# Altium footprint library 8.Quartz_Resonators&Filters.PcbLib: 10 footprints
Each footprint in its own frame and in the unit in brackets; x right, y up, seen from the top. Pads: shape width x height; smd on the part's side, far side on the other; paste and mask are expansions set on the pad; w line width, h text height; cw(c..) or ccw(c..) is an arc to the next point about the centre after c.
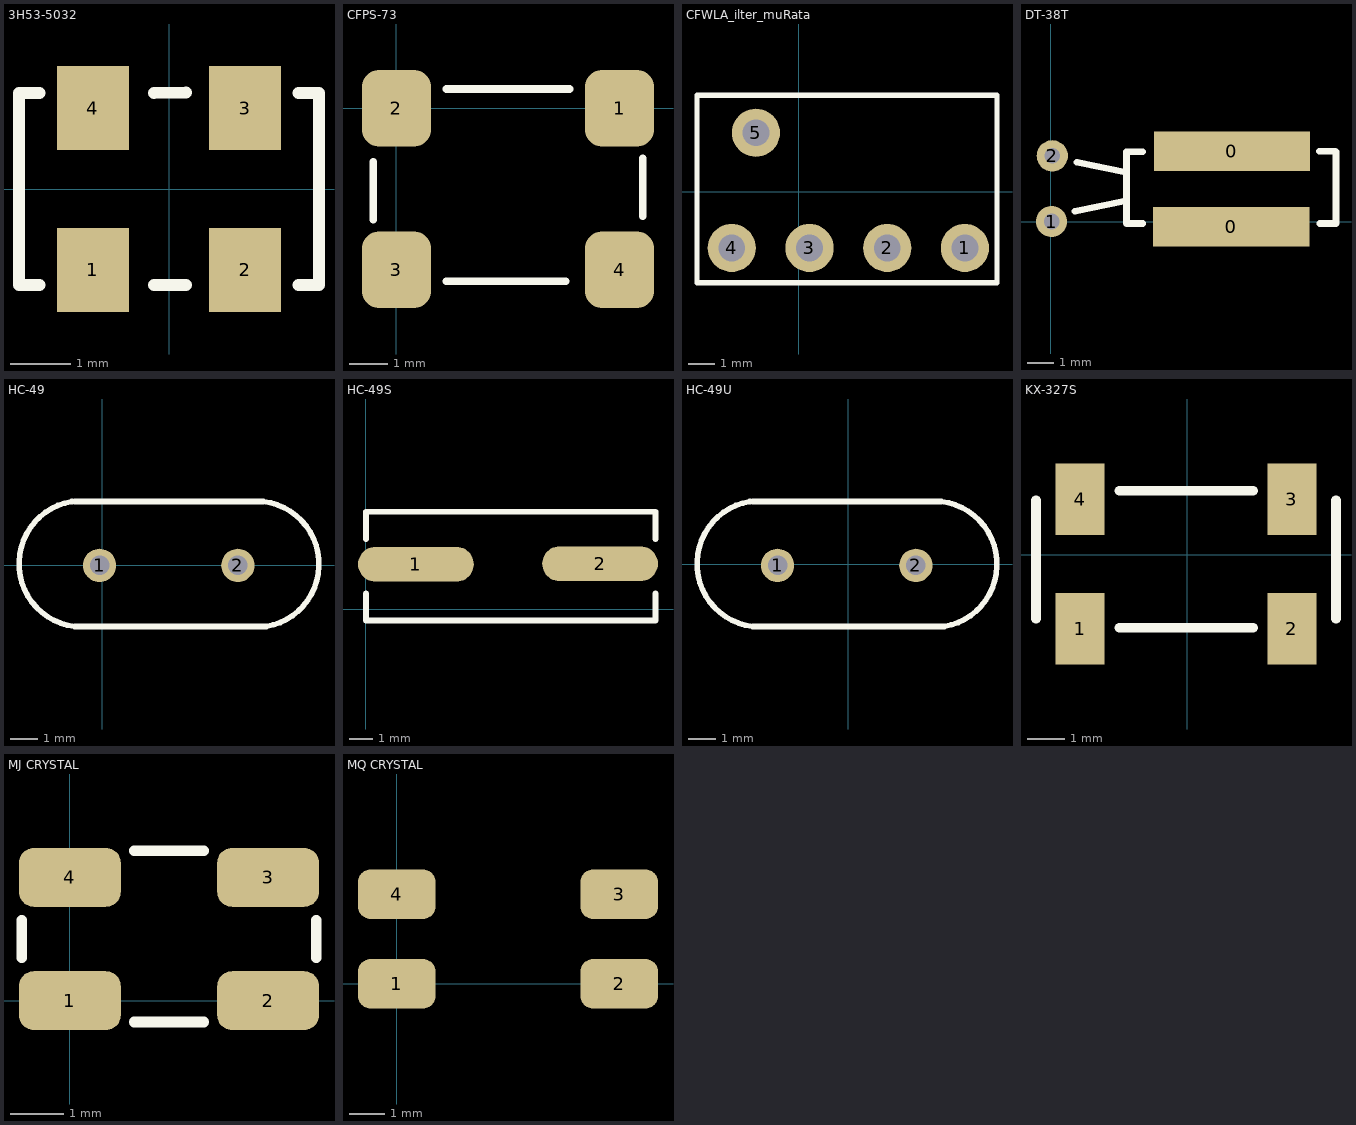
[diagram p0: the footprints below, top view; thin cyan lines are the x and y axes]

## 3H53-5032 [mm]
pads (4):
  rect 1.2x1.4 smd: 1(-1.27,-1.346) 2(1.27,-1.346) 3(1.27,1.346) 4(-1.27,1.346)
Top Overlay:
  lines w0.2: -2.159,-1.6 -2.5,-1.6 -2.5,0 -2.5,1.6 -2.159,1.6 ; -0.254,1.6 0.282,1.605 ; -0.251,-1.602 0.285,-1.597 ; 2.159,-1.6 2.5,-1.6 2.5,0 2.5,1.6 2.159,1.6
  text "." at -2.702,-2.501 h0.5
3D body "User Library-H53-5x3_2.step": height 1.22, standoff 0, extent -2.5,-1.6 2.5,1.6

## CFPS-73 [mm]
pads (4):
  rrect50% 1.8x2 smd: 1(5.8,0) 2(0,0) 3(0,-4.2) 4(5.8,-4.2)
Top Overlay:
  lines w0.2: -0.6,-2.9 -0.6,-1.4 ; 1.3,-4.5 4.4,-4.5 ; 1.3,0.5 4.5,0.5 ; 6.4,-2.8 6.4,-1.3
3D body "User Library-CFPS-73.step": height 1.52, standoff 0, extent -0.6,-4.51 6.4,0.51

## CFWLA_ilter_muRata [mm]
pads (5):
  round 1.8 hole 1: 1(6.2,-2.1) 2(3.3,-2.1) 3(0.4,-2.1) 4(-2.5,-2.1) 5(-1.6,2.2)
Top Overlay:
  lines w0.2: -3.8,-3.4 7.4,-3.4 7.4,3.6 -3.8,3.6 -3.8,-3.4
3D body "User Library-CFWLA.step": height 7.5, standoff -3.5, extent -3.8,-3.4 7.2,3.6

## DT-38T [mm]
pads (4):
  rect 6x1.5 smd: 0(6.925,-0.2) 0(6.95,2.7)
  round 1.2 hole 0.6: 1(0.025,0) 2(0.05,2.525)
Top Overlay:
  lines w0.254: 0.925,0.4 2.8,0.775 ; 1,2.275 2.875,1.9 ; 3.525,-0.075 2.9,-0.075 2.9,2.675 3.525,2.675 ; 10.3,2.7 10.925,2.7 ; 10.325,-0.075 10.95,-0.075 10.95,2.675
3D body "User Library-KDS-DT-38.step": height 3.1, standoff -2.5, extent -0.138,-0.25 11.038,2.75

## HC-49 [mm]
pads (2):
  round 1.2 hole 0.7: 1(-0.1,0) 2(4.88,0)
Top Overlay:
  lines w0.2: -1.1,2.3 ccw(c-0.727,0.057) -1,-2.2 5.9,-2.2 ccw(c5.527,0.043) 5.8,2.3 -1,2.3
3D body "User Library-HC-49.step": height 3.5, standoff -3, extent -3,-2.2 7.8,2.3

## HC-49S [mm]
pads (2):
  oval 5x1.5 smd: 1(2.159,1.93) 2(10.109,1.956)
Top Overlay:
  lines w0.254: 0,0.675 0,-0.5 12.5,-0.5 12.5,0.675 ; 0,3.025 0,4.2 12.5,4.2 12.5,3.025
3D body "User Library-HC-49S.step": height 4.4, standoff 0.05, extent 0.05,-0.45 12.35,4.25

## HC-49U [mm]
pads (2):
  round 1.2 hole 0.7: 1(-2.55,-0.05) 2(2.43,-0.05)
Top Overlay:
  lines w0.2: -3.55,2.25 ccw(c-3.177,0.007) -3.45,-2.25 3.45,-2.25 ccw(c3.077,-0.007) 3.35,2.25 -3.45,2.25
3D body "User Library-HC49U-2.step": height 13.2, standoff -2, extent -5.6,-2.3 5.4,2.2

## KX-327S [mm]
pads (4):
  rect 1.3x1.9 smd: 1(-2.85,-1.975) 2(2.775,-1.975) 3(2.775,1.475) 4(-2.85,1.475)
Top Overlay:
  lines w0.254: -4.025,-1.7 -4.025,1.45 ; -1.805,-1.95 1.75,-1.95 ; -1.805,1.7 1.75,1.7 ; 3.95,-1.7 3.95,1.45
3D body "User Library-KX-327S.step": height 2.5, standoff 0, extent -4.025,-2 3.975,1.7

## MJ CRYSTAL [mm]
pads (4):
  rrect50% 1.9x1.1 smd: 1(0,0) 2(3.7,0) 3(3.7,2.3) 4(0,2.3)
Top Overlay:
  lines w0.2: -0.9,0.8 -0.9,1.5 ; 1.2,-0.4 2.5,-0.4 ; 1.2,2.8 2.5,2.8 ; 4.6,0.8 4.6,1.5
  text "." at -1.3,-1 h0.5
3D body "User Library-CRYSTALSMD5X32.step": height 1, standoff 0, extent -0.671,-0.457 4.329,2.743

## MQ CRYSTAL [mm]
pads (4):
  rrect50% 2.2x1.4 smd: 1(0,0) 2(6.3,0) 3(6.3,2.54) 4(0,2.54)
3D body "User Library-KX-13 7_0x5_0x1_3.step": height 1.3, standoff 0, extent -0.2,-1.2 6.8,3.8